# Altium schematic symbol library title_block.SchLib: 1 symbol
Pins are listed as number, name and electrical type; pins without a type are passive.

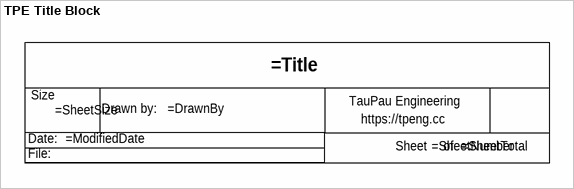
[diagram p0: symbol TPE Title Block]

## TPE Title Block
designator *  (value not drawn)
TPE Title block
text: Size; TauPau Engineering; Drawn by:; https://tpeng.cc; Date:; Sheet; of; File: